# EAGLE library part PLC100 (library electronic-labs)
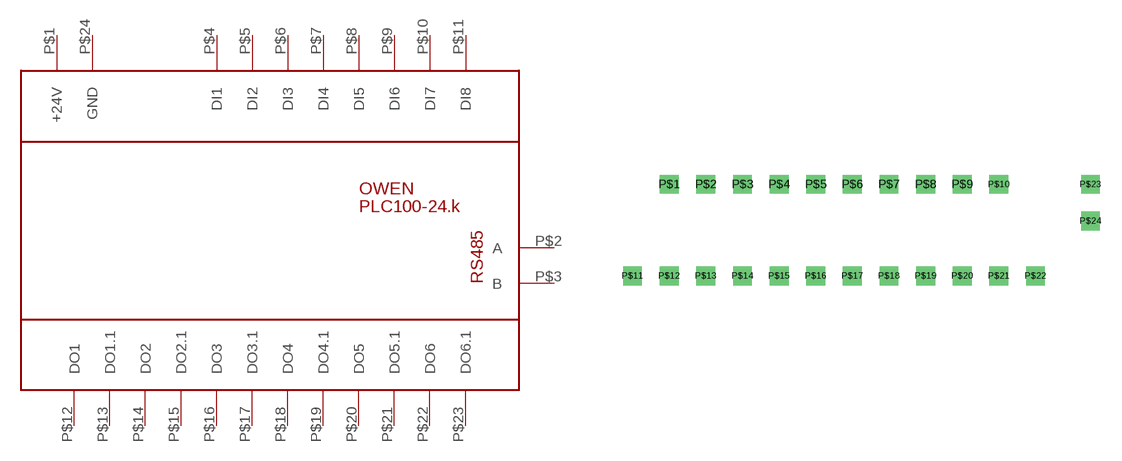
[diagram p5: symbol with the pads of PLC100; footprint PLC100]

Designator prefix -

## PLC100  [PLC100]
P$1  +24V  pwr
P$2  A
P$3  B
P$4  DI1
P$5  DI2
P$6  DI3
P$7  DI4
P$8  DI5
P$9  DI6
P$10  DI7
P$11  DI8
P$12  DO1
P$13  DO1.1
P$14  DO2
P$15  DO2.1
P$16  DO3
P$17  DO3.1
P$18  DO4
P$19  DO4.1
P$20  DO5
P$21  DO5.1
P$22  DO6
P$23  DO6.1
P$24  GND

## Footprint PLC100 (pad centres in mm)
drill 0.8 square: P$1 -13.97,7.62; P$2 -11.43,7.62; P$3 -8.89,7.62; P$4 -6.35,7.62; P$5 -3.81,7.62; P$6 -1.27,7.62; P$7 1.27,7.62; P$8 3.81,7.62; P$9 6.35,7.62; P$10 8.89,7.62; P$11 -16.51,1.27; P$12 -13.97,1.27; P$13 -11.43,1.27; P$14 -8.89,1.27; P$15 -6.35,1.27; P$16 -3.81,1.27; P$17 -1.27,1.27; P$18 1.27,1.27; P$19 3.81,1.27; P$20 6.35,1.27; P$21 8.89,1.27; P$22 11.43,1.27; P$23 15.24,7.62; P$24 15.24,5.08